# Altium schematic symbol library pixel.SchLib: 4 symbols
Pins are listed as number, name and electrical type; pins without a type are passive.

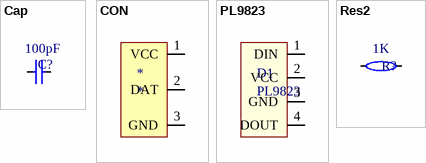
[diagram p0: symbols Cap to Res2]

## Cap
designator C?  value 100pF  (hidden comment: Cap)
Capacitor; Published: 8-Jun-2000; LatestRevisionDate: 17-Jul-2002; LatestRevisionNote: Re-released for DXP Platform.; PackageReference: RAD-0.3; Publisher: Altium Limited; PackageDescription: Radial Cap, Thru-Hole; 2 Leads; 0.3 in Pin Spacing
footprint CAP 0402 (Chip Capacitor, 2-Leads, Body 1.00x0.50mm, IPC High Density)
footprint 0603 (Chip Capacitor 0603)
pins: 1, 2

## CON
designator *
footprint CON3
pins: 1 VCC, 2 DAT, 3 GND

## PL9823
designator D1
footprint PL9823 5mm
pins: 1 DIN, 2 VCC, 3 GND, 4 DOUT

## Res2
designator R?  value 1K
Resistor; Published: 8-Jun-2000; LatestRevisionDate: 17-Jul-2002; LatestRevisionNote: Re-released for DXP Platform.; PackageReference: AXIAL-0.4; Publisher: Altium Limited; PackageDescription: Axial Device, Thru-Hole; 2 Leads; 0.4 in Pin Spacing
footprint RESC_0603_1608X08L (Chip Resistor, 2-Leads, Body 1.60x0.80mm, IPC High Density)
footprint 0402 (2-Leads, Body 1.00x0.50mm, IPC High Density)
pins: 1, 2